# Altium schematic symbol library NC7SZ332P6X.SchLib: 1 symbol
Pins are listed as number, name and electrical type; pins without a type are passive.

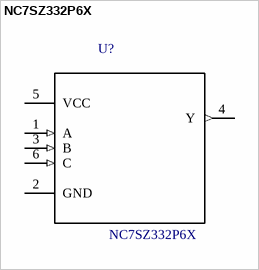
[diagram p0: symbol NC7SZ332P6X]

## NC7SZ332P6X
designator U?
/ NC7SZ332 Series 5.5 V Surface Mount TinyLogic UHS 3-Input OR Gate - SC-70-6 /; MF: ON Semiconductor; MP: NC7SZ332P6X; Availability: Unavailable; Package: SC-70-6 ON Semiconductor; SnapEDA_Link: https://www.snapeda.com/parts/NC7SZ332P6X/ON%20Semiconductor/view-part/2531391/?ref=snap; Price: None; Value: *
footprint *SOT65P210X110-6N
pins: 1 A (in), 2 GND, 3 B (in), 4 Y (out), 5 VCC (power), 6 C (in)